# Altium footprint library E-component.PcbLib: 39 footprints (part 1 of 3)
Each footprint in its own frame and in the unit in brackets; x right, y up, seen from the top. Pads: shape width x height; smd on the part's side, far side on the other; paste and mask are expansions set on the pad; w line width, h text height; cw(c..) or ccw(c..) is an arc to the next point about the centre after c.
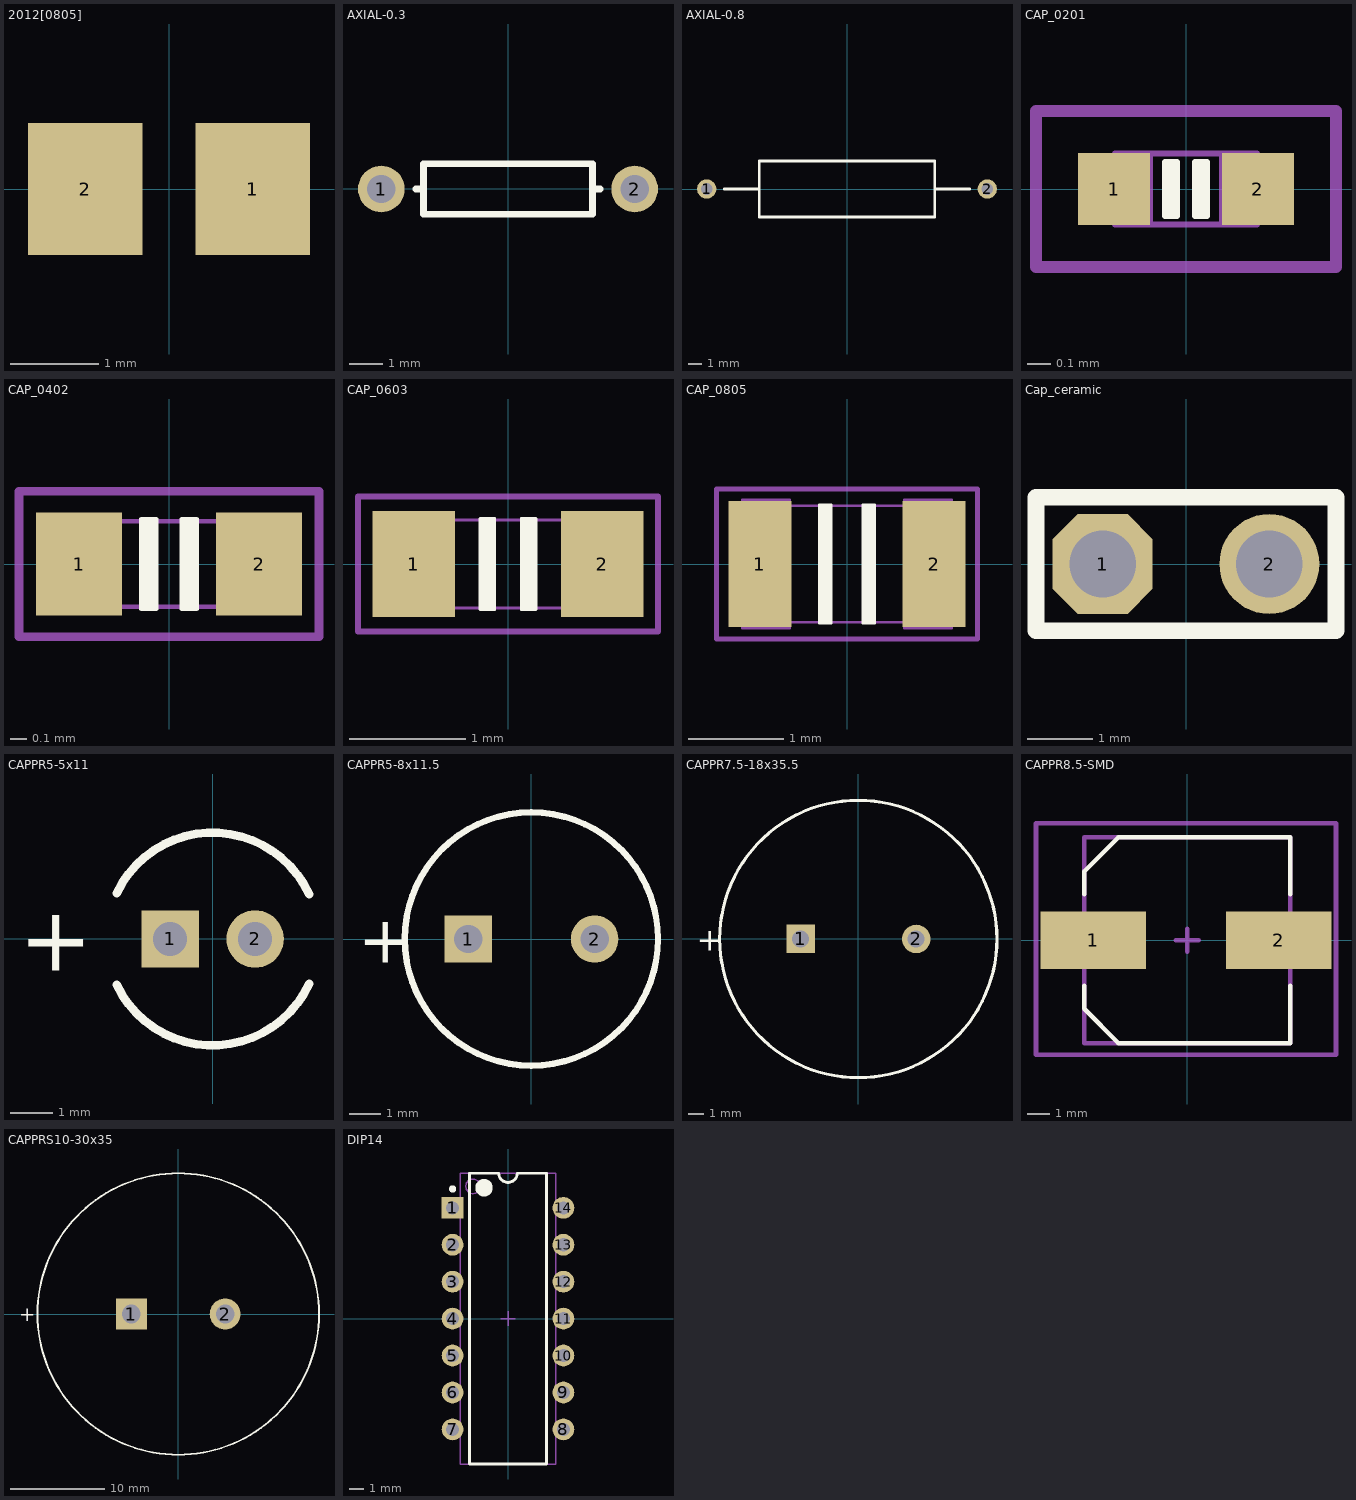
[diagram p0: the footprints below, top view; thin cyan lines are the x and y axes]

## 2012[0805] [mm] "Chip Resistor; Body 2.0 x 1.3 mm (LxW typ)"
height 2.54
pads (2):
  rect 1.3x1.5 smd: 1(0.95,0) 2(-0.95,0)
3D body: height 0.5, standoff 0, extent -1.275,-0.75 1.225,0.75

## AXIAL-0.3 [mm] "Axial Device, Thru-Hole; 2 Leads; 0.3 in Pin Spacing"
height 1.524
pads (2):
  round 1.4 hole 0.85: 1(-3.81,0) 2(3.81,0)
Top Overlay:
  lines w0.2: -2.769,0 -2.54,0 ; 2.769,0 2.54,0 ; 2.54,0 2.54,0.762 -2.54,0.762 -2.54,-0.762 2.54,-0.762 2.54,0

## AXIAL-0.8 [mm] "Axial Device, Thru-Hole; 2 Leads; 0.8 in Pin Spacing"
height 4.064
pads (2):
  round 1.4 hole 0.85: 1(-10.16,0) 2(10.16,0)
Top Overlay:
  lines w0.2: -8.89,0 -6.35,0 ; 6.35,0 8.89,0 ; -6.35,-2.032 -6.35,2.032 6.35,2.032 6.35,-2.032 -6.35,-2.032
3D body: height 4.52, standoff -2, extent -10.435,-2.25 10.635,2.25

## CAP_0201 [mil]
height 15.75
pads (2):
  rect 12x12 smd: 1(-12,0) 2(12,0)
Top Overlay:
  region: 3.5,4.5 3.5,-4.5 1.5,-4.5 1.5,4.5
  region: -3.5,-4.5 -3.5,4.5 -1.5,4.5 -1.5,-4.5
  lines w1: -3.5,-4.5 -3.5,4.5 -1.5,4.5 -1.5,-4.5 -3.5,-4.5 ; 1.5,-4.5 3.5,-4.5 3.5,4.5 1.5,4.5 1.5,-4.5
Mechanical 13:
  lines w1: -6,-5.9 -6,5.91 ; 6,-5.92 6,5.89 ; -11.8,-5.9 11.82,-5.9 11.82,5.91 -11.8,5.91 -11.8,-5.9
Mechanical 15:
  lines w2: -25,-13 25,-13 25,13 -25,13 -25,-13
3D body: height 12.99, standoff 0, extent -11.8,-5.9 11.82,5.91

## CAP_0402 [mil]
height 21.65
pads (2):
  rect 20x24 smd: 1(-21,0) 2(21,0)
Top Overlay:
  region: 6.5,-10.5 3,-10.5 3,10.5 6.5,10.5
  region: -6.5,10.5 -3,10.5 -3,-10.5 -6.5,-10.5
  lines w1: -6.5,-10.5 -6.5,10.5 -3,10.5 -3,-10.5 -6.5,-10.5 ; 3,-10.5 6.5,-10.5 6.5,10.5 3,10.5 3,-10.5
Mechanical 13:
  lines w1: -12.8,-10 12.8,-10 ; -12.8,10 12.8,10 ; -20.67,-10.83 -20.67,10.83 -12.8,10.83 -12.8,-10.83 -20.67,-10.83 ; 12.8,-10.83 20.67,-10.83 20.67,10.83 12.8,10.83 12.8,-10.83
Mechanical 15:
  lines w2: -35,-17 -35,17 35,17 35,-17 -35,-17
3D body: height 22.05, standoff 0, extent -19.68,-9.84 19.69,9.85

## CAP_0603 [mil]
height 31.5
pads (2):
  rect 28x36 smd: 1(-32,0) 2(32,0)
Top Overlay:
  region: -4.5,15.5 -9.5,15.5 -9.5,-15.5 -4.5,-15.5
  region: 4.5,-15.5 9.5,-15.5 9.5,15.5 4.5,15.5
  lines w1: -9.5,-15.5 -9.5,15.5 -4.5,15.5 -4.5,-15.5 -9.5,-15.5 ; 4.5,-15.5 9.5,-15.5 9.5,15.5 4.5,15.5 4.5,-15.5
Mechanical 13:
  lines w1: -19,-15 19,-15 ; -18.99,15 19.01,15 ; -33,-17 -33,17 -19,17 -19,-17 -33,-17 ; 19.01,-17 33.01,-17 33.01,17 19.01,17 19.01,-17
Mechanical 15:
  lines w2: -51,-23 -51,23 51,23 51,-23 -51,-23
3D body: height 36.22, standoff 0, extent -31.49,-15.74 31.5,15.75

## CAP_0805 [mil]
height 47.24
pads (2):
  rect 26x52 smd: 1(-36,0) 2(36,0)
Top Overlay:
  region: -11.5,24.5 -6.5,24.5 -6.5,-24.5 -11.5,-24.5
  region: 11.5,-24.5 6.5,-24.5 6.5,24.5 11.5,24.5
  lines w1: -11.5,-24.5 -6.5,-24.5 -6.5,24.5 -11.5,24.5 -11.5,-24.5 ; 6.5,-24.5 6.5,24.5 11.5,24.5 11.5,-24.5 6.5,-24.5
Mechanical 13:
  lines w1: -23.62,-24 23.62,-24 ; -23.62,24 23.62,24 ; -43.31,-26.57 -43.31,26.57 -23.62,26.57 -23.62,-26.57 -43.31,-26.57 ; 23.62,-26.57 43.31,-26.57 43.31,26.57 23.62,26.57 23.62,-26.57
Mechanical 15:
  lines w2: -54,-31 54,-31 54,31 -54,31 -54,-31
3D body: height 50, standoff 0, extent -39.36,-23.62 39.38,23.63

## CAP_1206 [mm]
height 1.2
3D body: height 1.52, standoff 0, extent -1.6,-0.8 1.6,0.8

## CAP_1210 [mm]
height 1.2
3D body: height 1.9, standoff 0, extent -1.6,-1.25 1.6,1.25

## Cap_ceramic [mil]
pads (2):
  oct 60x60 hole 40: 1(-50,0)
  round 60 hole 40: 2(50,0)
Top Overlay:
  lines w10: -90,-40 -90,40 90,40 90,-40 -90,-40
3D body: height 293.64, standoff -59.06, extent -96.79,-39.37 96.8,39.37

## CAPPR5-5x11 [mm] "Capacitor, Electrolytic, Radial; Body 5 x 11 mm (Dia.xH typ); Pin Spacing 5 mm (typ)"
height 12
pads (2):
  rect 1.35x1.35 hole 0.8: 1(-1,0)
  round 1.35 hole 0.8: 2(1,0)
Top Overlay:
  lines w0.2: -2.257,-1.075 ccw(c0,0) 2.269,-1.05 ; -2.257,1.075 cw(c0,0) 2.269,1.05
  text "+" at -4.55,-0.75 h1.5
3D body: height 11.53, standoff -3.27, extent -2.526,-2.625 2.525,2.425

## CAPPR5-8x11.5 [mm] "Capacitor, Electrolytic, Radial; Body 8 x 11.5 mm (Dia.xH typ); Pin Spacing 5 mm (typ)"
height 12.5
pads (2):
  rect 1.5x1.5 hole 0.9: 1(-2,0)
  round 1.5 hole 0.9: 2(2,0)
Top Overlay:
  circle w0.2: c0,0 r4
  text "+" at -5.475,-0.75 h1.5
3D body: height 12.03, standoff -3.48, extent -3.925,-4.025 4.126,4.025

## CAPPR7.5-18x35.5 [mm] "Capacitor, Electrolytic, Radial; Body 18 x 35.5 mm (Dia.xH typ); Pin Spacing 7.5 mm (typ)"
height 37.5
pads (2):
  rect 1.85x1.85 hole 1.1: 1(-3.75,0)
  round 1.85 hole 1.1: 2(3.75,0)
Top Overlay:
  circle w0.2: c-0.004,-0.001 r9
  text "+" at -10.475,-0.75 h1.5
3D body: height 35.8, standoff -0.7, extent -8.996,-8.89 8.998,9.106

## CAPPR8.5-SMD [mm]
pads (2):
  rect 4.6x2.5 smd: 1(-4.1,0) 2(4,0)
Top Overlay:
  lines w0.2: -4.5,-2 -4.5,-3 -3,-4.5 4.5,-4.5 4.5,-2 ; -4.5,2 -4.5,3 -3,4.5 4.5,4.5 4.5,2
Mechanical 13:
  lines w0.2: -4.5,-4.5 -4.5,4.5 4.5,4.5 4.5,-4.5 -4.5,-4.5
Mechanical 15:
  lines w0.2: -0.5,0 0.5,0 ; 0,-0.5 0,0.5 ; -6.6,-5 -6.6,5.1 6.5,5.1 6.5,-5 -6.6,-5

## CAPPRS10-30x35 [mm] "Capacitor, Electrolytic, Radial, Snap-In Pins; Body 30 x 35 mm (Dia.xH typ); Pin Spacing 10 mm (typ)"
height 37
pads (2):
  rect 3.3x3.3 hole 2: 1(-5,0)
  round 3.3 hole 2: 2(5,0)
Top Overlay:
  circle w0.2: c0,0 r15
  text "+" at -16.975,-0.75 h1.5
3D body: height 36.83, standoff -6.89, extent -15.169,-15.423 15.311,15.057

## DIP14 [mm]
pads (14):
  rect 1.5x1.5 hole 0.9: 1(-3.81,7.62)
  round 1.5 hole 0.9: 2(-3.81,5.08) 3(-3.81,2.54) 4(-3.81,0) 5(-3.81,-2.54) 6(-3.81,-5.08) 7(-3.81,-7.62) 8(3.81,-7.62) 9(3.81,-5.08) 10(3.81,-2.54) 11(3.81,0) 12(3.81,2.54) 13(3.81,5.08) 14(3.81,7.62)
Top Overlay:
  circle w0.25: c-3.81,8.92 r0.125
  circle w0.6: c-1.65,9 r0.3
  lines w0.2: -2.65,-10 -2.65,10 -0.635,10 ccw(c0,10) 0.635,10 2.65,10 2.65,-10 -2.65,-10
Mechanical 13:
  circle w0.1: c-2.4,9.1 r0.5
  lines w0.1: -3.3,-10 -3.3,10 3.3,10 3.3,-10 -3.3,-10
Mechanical 15:
  lines w0.1: -0.5,0 0.5,0 ; 0,-0.5 0,0.5
3D body: height 4.8, standoff 0.38, extent -3.299,-9.999 3.299,9.999